# Altium footprint library Connector_FPC.PcbLib: 12 footprints
Each footprint in its own frame and in the unit in brackets; x right, y up, seen from the top. Pads: shape width x height; smd on the part's side, far side on the other; paste and mask are expansions set on the pad; w line width, h text height; cw(c..) or ccw(c..) is an arc to the next point about the centre after c.
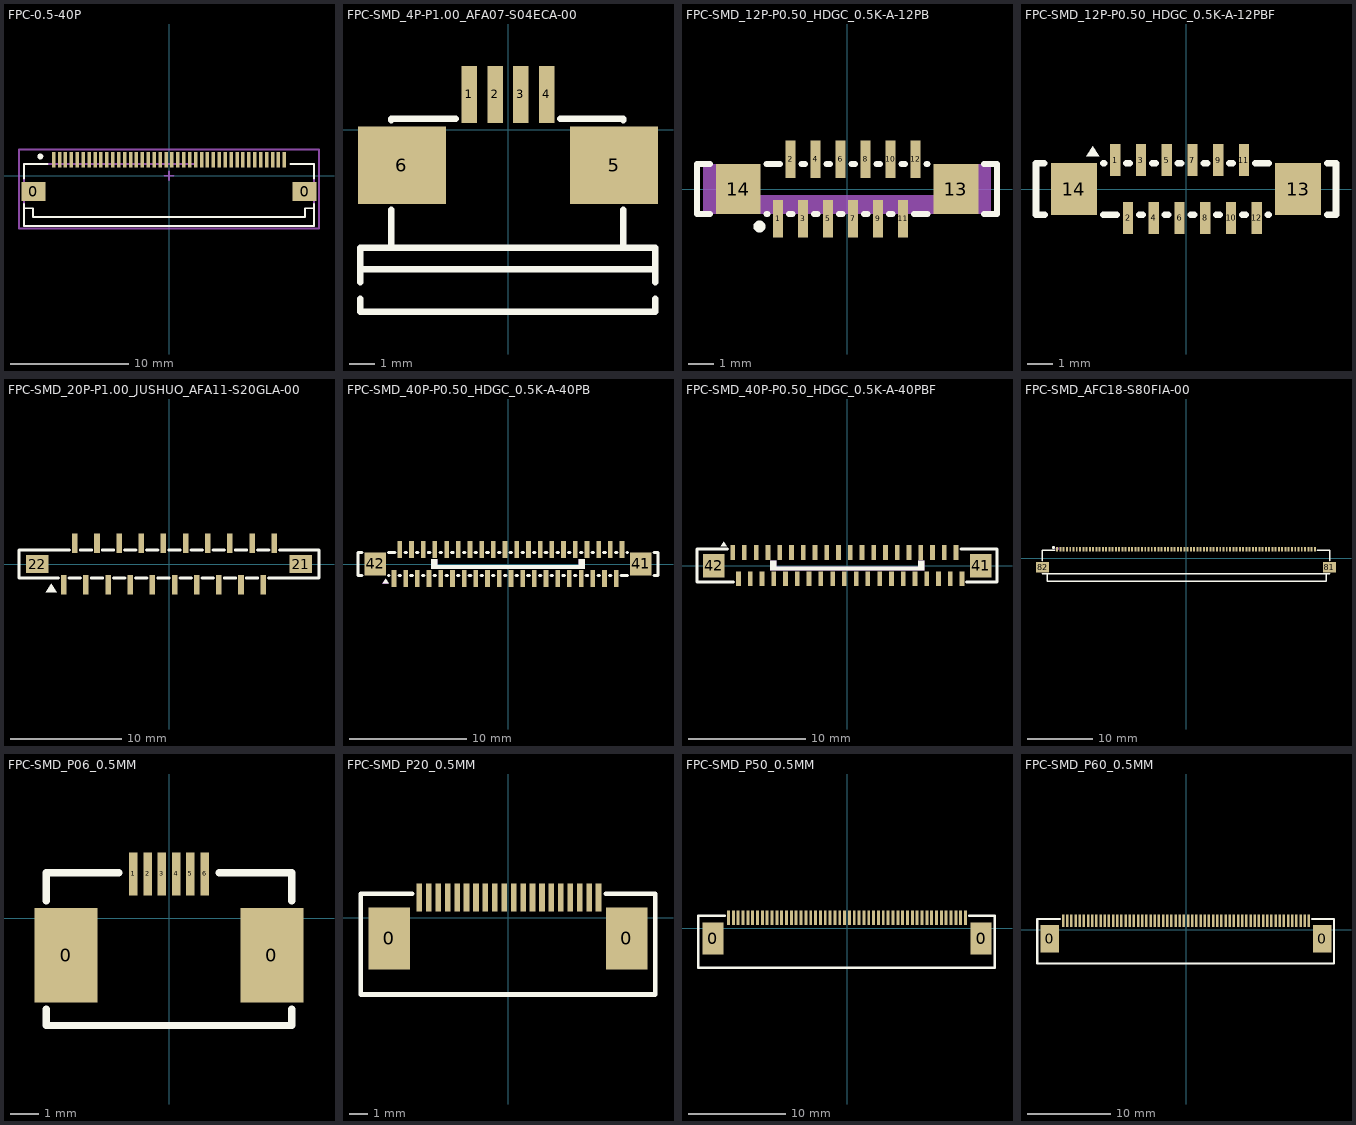
[diagram p0: the footprints below, top view; thin cyan lines are the x and y axes]

## FPC-0.5-40P [mm]
height 3.16
pads (42):
  rect 2x1.6 smd: 0(-11.45,-1.337) 0(11.45,-1.337)
  rect 0.3x1.3 smd: 1(-9.75,1.338) 2(-9.25,1.338) 3(-8.75,1.338) 4(-8.25,1.338) 5(-7.75,1.338) 6(-7.25,1.338) 7(-6.75,1.338) 8(-6.25,1.338) 9(-5.75,1.338) 10(-5.25,1.338) 11(-4.75,1.338) 12(-4.25,1.338) 13(-3.75,1.338) 14(-3.25,1.338) 15(-2.75,1.338) 16(-2.25,1.338) 17(-1.75,1.338) 18(-1.25,1.338) 19(-0.75,1.338) 20(-0.25,1.338) 21(0.25,1.338) 22(0.75,1.338) 23(1.25,1.338) 24(1.75,1.338) 25(2.25,1.338) 26(2.75,1.338) 27(3.25,1.338) 28(3.75,1.338) 29(4.25,1.338) 30(4.75,1.338) 31(5.25,1.338) 32(5.75,1.338) 33(6.25,1.338) 34(6.75,1.338) 35(7.25,1.338) 36(7.75,1.338) 37(8.25,1.338) 38(8.75,1.338) 39(9.25,1.338) 40(9.75,1.338)
Top Overlay:
  circle w0.254: c-10.875,1.625 r0.125
  lines w0.152: -12.25,-2.75 -11.5,-2.75 -11.5,-3.5 -8,-3.5 11.5,-3.5 11.5,-2.75 12.25,-2.75 ; -12.25,-2.375 -12.25,-4.25 12.25,-4.25 12.25,-2.375 ; -12.25,-0.25 -12.25,1 -10.25,1 ; 11.25,1 10.25,1 12.25,1 12.25,-0.25
Mechanical 13:
  lines w0.152: 2.25,1 -12.25,1 -12.25,-4.25 12.25,-4.25 12.25,1
Mechanical 15:
  lines w0.152: -0.375,0 0.375,0 ; 0,-0.375 0,0.375 ; -12.675,-4.45 12.675,-4.45 12.675,2.2 -12.675,2.2 -12.675,-4.45
3D body: height 2, standoff 0.2, extent -12.25,-4.25 12.25,1

## FPC-SMD_4P-P1.00_AFA07-S04ECA-00 [mm]
pads (6):
  rect 0.6x2.2 smd: 1(-1.5,1.365) 2(-0.5,1.365) 3(0.499,1.365) 4(1.499,1.365)
  rect 3.4x3 smd: 5(4.1,-1.365) 6(-4.1,-1.365)
Top Overlay:
  lines w0.254: -5.718,-6.543 -5.718,-7.043 5.69,-7.043 ; -5.718,-5.893 -5.718,-5.393 -5.718,-4.563 ; -5.718,-5.394 4.48,-5.394 ; -5.718,-4.554 5.69,-4.554 ; -4.518,-4.554 -4.518,-3.096 ; -4.518,0.367 -4.518,0.435 -2.031,0.435 ; 2.031,0.435 4.45,0.435 ; 4.459,-4.554 4.459,-3.096 ; 4.459,0.366 4.459,0.435 ; 4.49,-5.394 5.69,-5.394 ; 5.69,-7.044 5.69,-6.544 ; 5.69,-5.894 5.69,-5.394 ; 5.69,-4.564 5.69,-5.394

## FPC-SMD_12P-P0.50_HDGC_0.5K-A-12PB [mm]
pads (14):
  rect 0.4x1.5 smd: 1(-2.75,-1.2) 2(-2.25,1.2) 3(-1.75,-1.2) 4(-1.25,1.2) 5(-0.75,-1.2) 6(-0.25,1.2) 7(0.25,-1.2) 8(0.75,1.2) 9(1.25,-1.2) 10(1.75,1.2) 11(2.25,-1.2) 12(2.75,1.2)
  rect 1.8x2 smd: 13(4.35,0) 14(-4.35,0)
Top Overlay:
  circle w0.254: c-3.5,-1.5 r0.114
  lines w0.254: -5.481,-1 -6,-1 -6,1 -5.5,1 -5.481,1 ; -3.219,-1 -3.181,-1 ; -3.219,1 -2.681,1 ; -2.319,-1 -2.181,-1 ; -1.819,1 -1.681,1 ; -1.319,-1 -1.181,-1 ; -0.819,1 -0.681,1 ; -0.319,-1 -0.181,-1 ; 0.181,1 0.319,1 ; 0.681,-1 0.819,-1 ; 1.181,1 1.319,1 ; 1.681,-1 1.819,-1 ; 2.181,1 2.319,1 ; 2.681,-1 3.219,-1 ; 3.181,1 3.219,1 ; 5.481,-1.001 6,-1.001 6,1.001 ; 5.481,0.999 6,0.999
Mechanical 15:
  region: -5.75,1 -5.75,-1 5.75,-1 5.75,1 3.5,1 3.5,-0.25 -3.5,-0.25 -3.5,1
3D body "FPC1.stp": height 4.5, standoff 0, extent -5.825,-1.75 5.825,1.75

## FPC-SMD_12P-P0.50_HDGC_0.5K-A-12PBF [mm]
pads (14):
  rect 0.4x1.25 smd: 1(-2.75,1.125) 2(-2.25,-1.125) 3(-1.75,1.125) 4(-1.25,-1.125) 5(-0.75,1.125) 6(-0.25,-1.125) 7(0.25,1.125) 8(0.75,-1.125) 9(1.25,1.125) 10(1.75,-1.125) 11(2.25,1.125) 12(2.75,-1.125)
  rect 1.8x2 smd: 13(4.35,0) 14(-4.35,0)
Top Overlay:
  region: -3.62,1.651 -3.874,1.27 -3.366,1.27
  lines w0.254: -5.5,1 -5.825,1 -5.825,-1 -5.481,-1 ; -3.219,1 -3.181,1 ; -3.181,-1 -3.219,-1 -2.681,-1 ; -2.319,1 -2.181,1 ; -1.819,-1 -1.681,-1 ; -1.319,1 -1.181,1 ; -0.819,-1 -0.681,-1 ; -0.319,1 -0.181,1 ; 0.181,-1 0.319,-1 ; 0.681,1 0.819,1 ; 1.181,-1 1.319,-1 ; 1.681,1 1.819,1 ; 2.181,-1 2.319,-1 ; 2.681,1 2.819,1 3.219,1 ; 3.181,-1 3.219,-1 ; 5.481,-1 5.825,-1 5.825,1 5.481,1
3D body "FPC2.stp": height 4.5, standoff 0, extent -5.825,-1.75 5.825,1.75

## FPC-SMD_20P-P1.00_JUSHUO_AFA11-S20GLA-00 [mm]
pads (22):
  rect 0.5x1.75 smd: 1(-9.5,-1.875) 2(-8.5,1.875) 3(-7.5,-1.875) 4(-6.5,1.875) 5(-5.5,-1.875) 6(-4.5,1.875) 7(-3.5,-1.875) 8(-2.5,1.875) 9(-1.5,-1.875) 10(-0.5,1.875) 11(0.5,-1.875) 12(1.5,1.875) 13(2.5,-1.875) 14(3.5,1.875) 15(4.5,-1.875) 16(5.5,1.875) 17(6.5,-1.875) 18(7.5,1.875) 19(8.5,-1.875) 20(9.5,1.875)
  rect 2x1.6 smd: 21(11.9,0) 22(-11.9,0)
Top Overlay:
  region: -10.621,-1.778 -11.129,-2.54 -10.113,-2.54
  lines w0.254: -9.981,-1.25 -13.542,-1.25 -13.542,1.25 -8.981,1.25 ; -9.019,-1.25 -7.981,-1.25 ; -8.019,1.25 -6.981,1.25 ; -7.019,-1.25 -5.981,-1.25 ; -6.019,1.25 -4.981,1.25 ; -5.019,-1.25 -3.981,-1.25 ; -4.019,1.25 -2.981,1.25 ; -3.019,-1.25 -1.981,-1.25 ; -2.019,1.25 -0.981,1.25 ; -1.019,-1.25 0.019,-1.25 ; -0.019,1.25 1.019,1.25 ; 0.981,-1.25 2.019,-1.25 ; 1.981,1.25 3.019,1.25 ; 2.981,-1.25 4.019,-1.25 ; 3.981,1.25 5.019,1.25 ; 4.981,-1.25 6.019,-1.25 ; 5.981,1.25 7.019,1.25 ; 6.981,-1.25 8.019,-1.25 ; 7.981,1.25 9.019,1.25 ; 8.981,-1.25 10.019,-1.25 ; 9.981,1.25 13.542,1.25 13.542,-1.25 10.033,-1.25
3D body "X1.stp": height 5.4, standoff 0, extent -13.5,-2.25 13.5,2.25

## FPC-SMD_40P-P0.50_HDGC_0.5K-A-40PB [mm]
pads (42):
  rect 0.4x1.45 smd: 1(-9.75,-1.252) 2(-9.25,1.252) 3(-8.75,-1.252) 4(-8.25,1.252) 5(-7.75,-1.252) 6(-7.25,1.252) 7(-6.75,-1.252) 8(-6.25,1.252) 9(-5.75,-1.252) 10(-5.25,1.252) 11(-4.75,-1.252) 12(-4.25,1.252) 13(-3.75,-1.252) 14(-3.25,1.252) 15(-2.75,-1.252) 16(-2.25,1.252) 17(-1.75,-1.252) 18(-1.25,1.252) 19(-0.75,-1.252) 20(-0.25,1.252) 21(0.25,-1.252) 22(0.75,1.252) 23(1.25,-1.252) 24(1.75,1.252) 25(2.25,-1.252) 26(2.75,1.252) 27(3.25,-1.252) 28(3.75,1.252) 29(4.25,-1.252) 30(4.75,1.252) 31(5.25,-1.252) 32(5.75,1.252) 33(6.25,-1.252) 34(6.75,1.252) 35(7.25,-1.252) 36(7.75,1.252) 37(8.25,-1.252) 38(8.75,1.252) 39(9.25,-1.252) 40(9.75,1.252)
  rect 1.8x2 smd: 41(11.35,0) 42(-11.35,0)
Top Overlay:
  region: -6.55,-0.4 -6.55,0.4 -6.05,0.4 -6.05,-0.1 6.05,-0.1 6.05,0.4 6.55,0.4 6.55,-0.4
  region: -10.454,-1.27 -10.2,-1.651 -10.708,-1.651
  lines w0.254: -12.481,-1 -12.825,-1 -12.825,1 -12.481,1 ; -10.219,-1 -10.181,-1 ; -10.219,1 -9.681,1 ; -9.319,-1 -9.181,-1 ; -8.819,1 -8.681,1 ; -8.319,-1 -8.181,-1 ; -7.819,1 -7.681,1 ; -7.319,-1 -7.181,-1 ; -6.819,1 -6.681,1 ; -6.319,-1 -6.181,-1 ; -5.819,1 -5.681,1 ; -5.319,-1 -5.181,-1 ; -4.819,1 -4.681,1 ; -4.319,-1 -4.181,-1 ; -3.819,1 -3.681,1 ; -3.319,-1 -3.181,-1 ; -2.819,1 -2.681,1 ; -2.319,-1 -2.181,-1 ; -1.819,1 -1.681,1 ; -1.319,-1 -1.181,-1 ; -0.819,1 -0.681,1 ; -0.319,-1 -0.181,-1 ; 0.181,1 0.319,1 ; 0.681,-1 0.819,-1 ; 1.181,1 1.319,1 ; 1.681,-1 1.819,-1 ; 2.181,1 2.319,1 ; 2.681,-1 2.819,-1 ; 3.181,1 3.319,1 ; 3.681,-1 3.819,-1 ; 4.181,1 4.319,1 ; 4.681,-1 4.819,-1 ; 5.181,1 5.319,1 ; 5.681,-1 5.819,-1 ; 6.181,1 6.319,1 ; 6.681,-1 6.819,-1 ; 7.181,1 7.319,1 ; 7.681,-1 7.819,-1 ; 8.181,1 8.319,1 ; 8.681,-1 8.819,-1 ; 9.181,1 9.319,1 ; 9.681,-1 9.819,-1 10.219,-1 ; 10.181,1 10.219,1 ; 12.481,-1 12.825,-1 12.825,1 12.481,1
Mechanical 15:
  region: -6.55,-0.4 -6.55,0.4 -6.05,0.4 -6.05,-0.1 6.05,-0.1 6.05,0.4 6.55,0.4 6.55,-0.4
  region: -10.5,-1.31 -10.246,-1.691 -10.754,-1.691
3D body "FPC3.stp": height 5.15, standoff 0, extent -13.199,-1.5 13.199,1.5

## FPC-SMD_40P-P0.50_HDGC_0.5K-A-40PBF [mm]
pads (42):
  rect 0.4x1.25 smd: 1(-9.75,1.125) 2(-9.25,-1.125) 3(-8.75,1.125) 4(-8.25,-1.125) 5(-7.75,1.125) 6(-7.25,-1.125) 7(-6.75,1.125) 8(-6.25,-1.125) 9(-5.75,1.125) 10(-5.25,-1.125) 11(-4.75,1.125) 12(-4.25,-1.125) 13(-3.75,1.125) 14(-3.25,-1.125) 15(-2.75,1.125) 16(-2.25,-1.125) 17(-1.75,1.125) 18(-1.25,-1.125) 19(-0.75,1.125) 20(-0.25,-1.125) 21(0.25,1.125) 22(0.75,-1.125) 23(1.25,1.125) 24(1.75,-1.125) 25(2.25,1.125) 26(2.75,-1.125) 27(3.25,1.125) 28(3.75,-1.125) 29(4.25,1.125) 30(4.75,-1.125) 31(5.25,1.125) 32(5.75,-1.125) 33(6.25,1.125) 34(6.75,-1.125) 35(7.25,1.125) 36(7.75,-1.125) 37(8.25,1.125) 38(8.75,-1.125) 39(9.25,1.125) 40(9.75,-1.125)
  rect 1.8x2 smd: 41(11.35,0) 42(-11.35,0)
Top Overlay:
  region: -10.494,2.032 -10.748,1.651 -10.24,1.651
  region: -6.55,-0.4 -6.55,0.4 -6.05,0.4 -6.05,-0.1 6.05,-0.1 6.05,0.4 6.55,0.4 6.55,-0.4
  lines w0.254: -10.181,1.397 -12.78,1.397 -12.78,-1.397 -9.681,-1.397 ; 9.68,1.4 12.728,1.4 12.728,-1.394 10.129,-1.394
Mechanical 15:
  region: -6.55,-0.4 -6.55,0.4 -6.05,0.4 -6.05,-0.1 6.05,-0.1 6.05,0.4 6.55,0.4 6.55,-0.4
3D body "CONN-SMD_FPC-0.5MM-40P.stp": height 5.15, standoff 0, extent -13.199,-1.5 13.199,1.5

## FPC-SMD_AFC18-S80FIA-00 [mm]
pads (82):
  rect 0.3x0.7 smd: 1(-19.75,1.369) 2(-19.25,1.369) 3(-18.75,1.369) 4(-18.25,1.369) 5(-17.75,1.369) 6(-17.25,1.369) 7(-16.75,1.369) 8(-16.25,1.369) 9(-15.75,1.369) 10(-15.25,1.369) 11(-14.75,1.369) 12(-14.25,1.369) 13(-13.75,1.369) 14(-13.25,1.369) 15(-12.75,1.369) 16(-12.25,1.369) 17(-11.75,1.369) 18(-11.25,1.369) 19(-10.75,1.369) 20(-10.25,1.369) 21(-9.75,1.369) 22(-9.25,1.369) 23(-8.75,1.369) 24(-8.25,1.369) 25(-7.75,1.369) 26(-7.25,1.369) 27(-6.75,1.369) 28(-6.25,1.369) 29(-5.75,1.369) 30(-5.25,1.369) 31(-4.75,1.369) 32(-4.25,1.369) 33(-3.75,1.369) 34(-3.25,1.369) 35(-2.75,1.369) 36(-2.25,1.369) 37(-1.75,1.369) 38(-1.25,1.369) 39(-0.75,1.369) 40(-0.25,1.369) 41(0.25,1.369) 42(0.75,1.369) 43(1.25,1.369) 44(1.75,1.369) 45(2.25,1.369) 46(2.75,1.369) 47(3.25,1.369) 48(3.75,1.369) 49(4.25,1.369) 50(4.75,1.369) 51(5.25,1.369) 52(5.75,1.369) 53(6.25,1.369) 54(6.75,1.369) 55(7.25,1.369) 56(7.75,1.369) 57(8.25,1.369) 58(8.75,1.369) 59(9.25,1.369) 60(9.75,1.369) 61(10.25,1.369) 62(10.75,1.369) 63(11.25,1.369) 64(11.75,1.369) 65(12.25,1.369) 66(12.75,1.369) 67(13.25,1.369) 68(13.75,1.369) 69(14.25,1.369) 70(14.75,1.369) 71(15.25,1.369) 72(15.75,1.369) 73(16.25,1.369) 74(16.75,1.369) 75(17.25,1.369) 76(17.75,1.369) 77(18.25,1.369) 78(18.75,1.369) 79(19.25,1.369) 80(19.75,1.369)
  rect 2x1.6 smd: 81(22,-1.369) 82(-22,-1.369)
Top Overlay:
  circle w0.25: c-20.312,1.659 r0.125
  lines w0.254: -22.05,-2.382 -21.25,-2.382 -21.25,-3.551 21.5,-3.551 21.5,-2.382 ; -22.05,-0.338 -22.05,1.199 -20.131,1.199 ; -21.25,-2.382 21.5,-2.382 ; 20.131,1.199 22.05,1.199 22.05,-0.338 ; 22.05,-2.382 21.5,-2.382
Mechanical 15:
  circle w0.25: c-19.743,1.486 r0.125

## FPC-SMD_P06_0.5MM [mm]
pads (8):
  rect 2.2x3.3 smd: 0(-3.6,-1.296) 0(3.6,-1.296)
  rect 0.3x1.5 smd: 1(-1.25,1.546) 2(-0.75,1.546) 3(-0.25,1.546) 4(0.25,1.546) 5(0.75,1.546) 6(1.25,1.546)
Top Overlay:
  lines w0.254: -4.3,-3.192 -4.3,-3.76 4.3,-3.76 4.3,-3.192 ; -4.3,0.6 -4.3,1.59 -1.75,1.59 ; 1.75,1.59 4.3,1.59 4.3,0.6

## FPC-SMD_P20_0.5MM [mm]
pads (22):
  rect 2.2x3.3 smd: 0(-6.301,-1.084) 0(6.301,-1.084)
  rect 0.3x1.5 smd: 1(-4.699,1.084) 2(-4.199,1.084) 3(-3.699,1.084) 4(-3.199,1.084) 5(-2.699,1.084) 6(-2.199,1.084) 7(-1.699,1.084) 8(-1.199,1.084) 9(-0.699,1.084) 10(-0.199,1.084) 11(0.301,1.084) 12(0.801,1.084) 13(1.301,1.084) 14(1.803,1.083) 15(2.301,1.084) 16(2.801,1.084) 17(3.301,1.084) 18(3.801,1.084) 19(4.301,1.084) 20(4.801,1.084)
Top Overlay:
  lines w0.254: -5.08,1.286 -7.8,1.286 -7.8,-4.064 7.8,-4.064 7.8,1.286 5.182,1.286
3D body "1816389_2-1734839-0.stp": height 2.1, standoff 0.05, extent -7.715,-3.967 7.715,1.143

## FPC-SMD_P50_0.5MM [mm]
pads (52):
  rect 2.2x3.3 smd: 0(-13.852,-1.084) 0(13.852,-1.084)
  rect 0.3x1.5 smd: 1(-12.25,1.084) 2(-11.75,1.084) 3(-11.25,1.084) 4(-10.75,1.084) 5(-10.25,1.084) 6(-9.75,1.084) 7(-9.25,1.084) 8(-8.75,1.084) 9(-8.25,1.084) 10(-7.75,1.084) 11(-7.25,1.084) 12(-6.75,1.084) 13(-6.25,1.084) 14(-5.748,1.083) 15(-5.25,1.084) 16(-4.75,1.084) 17(-4.25,1.084) 18(-3.75,1.084) 19(-3.25,1.084) 20(-2.75,1.084) 21(-2.25,1.084) 22(-1.75,1.084) 23(-1.25,1.084) 24(-0.75,1.084) 25(-0.25,1.084) 26(0.25,1.084) 27(0.75,1.084) 28(1.25,1.084) 29(1.75,1.084) 30(2.25,1.084) 31(2.75,1.084) 32(3.25,1.084) 33(3.75,1.084) 34(4.25,1.084) 35(4.75,1.084) 36(5.25,1.084) 37(5.75,1.084) 38(6.25,1.084) 39(6.75,1.084) 40(7.25,1.084) 41(7.75,1.084) 42(8.25,1.084) 43(8.75,1.084) 44(9.25,1.084) 45(9.75,1.084) 46(10.25,1.084) 47(10.75,1.084) 48(11.25,1.084) 49(11.75,1.084) 50(12.25,1.084)
Top Overlay:
  lines w0.254: -12.631,1.286 -15.351,1.286 -15.351,-4.064 15.249,-4.064 15.249,1.286 12.631,1.286

## FPC-SMD_P60_0.5MM [mm]
pads (62):
  rect 2.2x3.3 smd: 0(-16.352,-1.084) 0(16.352,-1.084)
  rect 0.3x1.5 smd: 1(-14.75,1.084) 2(-14.25,1.084) 3(-13.75,1.084) 4(-13.25,1.084) 5(-12.75,1.084) 6(-12.25,1.084) 7(-11.75,1.084) 8(-11.25,1.084) 9(-10.75,1.084) 10(-10.25,1.084) 11(-9.75,1.084) 12(-9.25,1.084) 13(-8.75,1.084) 14(-8.248,1.083) 15(-7.75,1.084) 16(-7.25,1.084) 17(-6.75,1.084) 18(-6.25,1.084) 19(-5.75,1.084) 20(-5.25,1.084) 21(-4.75,1.084) 22(-4.25,1.084) 23(-3.75,1.084) 24(-3.25,1.084) 25(-2.75,1.084) 26(-2.25,1.084) 27(-1.75,1.084) 28(-1.25,1.084) 29(-0.75,1.084) 30(-0.25,1.084) 31(0.25,1.084) 32(0.75,1.084) 33(1.25,1.084) 34(1.75,1.084) 35(2.25,1.084) 36(2.75,1.084) 37(3.25,1.084) 38(3.75,1.084) 39(4.25,1.084) 40(4.75,1.084) 41(5.25,1.084) 42(5.75,1.084) 43(6.25,1.084) 44(6.75,1.084) 45(7.25,1.084) 46(7.75,1.084) 47(8.25,1.084) 48(8.75,1.084) 49(9.25,1.084) 50(9.75,1.084) 51(10.25,1.084) 52(10.75,1.084) 53(11.25,1.084) 54(11.75,1.084) 55(12.25,1.084) 56(12.75,1.084) 57(13.25,1.084) 58(13.75,1.084) 59(14.25,1.084) 60(14.75,1.084)
Top Overlay:
  lines w0.254: -15.131,1.286 -17.851,1.286 -17.851,-4.064 17.749,-4.064 17.749,1.286 15.131,1.286